# EAGLE library part SN74LVC2G32DCURG4 (library SN74LVC2G32DCURG4)
OR Gate 2-Element 2-IN CMOS 8-Pin VSSOP T/R Source: Datasheet <https://www.ti.com/lit/ds/symlink/sn74lvc2g32.pdf?ts=1619327696294&ref_url=https%3A%2F%2Fwww.ti.com%2Fproduct%2FSN74LVC2G32>
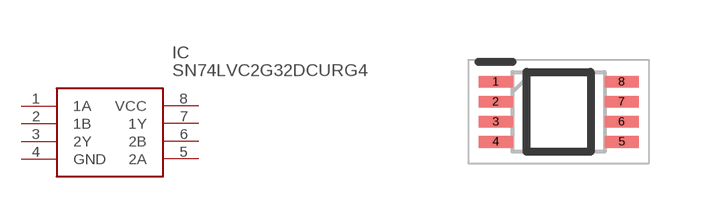
[diagram p0: symbol with the pads of SOP50P310X90-8N; footprint SOP50P310X90-8N]

Designator prefix IC

## SN74LVC2G32DCURG4 (Description: OR Gate 2-Element 2-IN CMOS 8-Pin VSSOP T/R; Height: 0.9mm; Manufacturer_Name: Texas Instruments; Manufacturer_Part_Number: SN74LVC2G32DCURG4; Mouser_Part_Number: 595-74LVC2G32DCURG4; Mouser_Price-Stock: https://www.mouser.co.uk/ProductDetail/Texas-Instruments/SN74LVC2G32DCURG4?qs=nqigI8dpoHK3mpTBwiNlKA%3D%3D)  [SOP50P310X90-8N]
1  1A
2  1B
3  2Y
4  GND
5  2A
6  2B
7  1Y
8  VCC

## Footprint SOP50P310X90-8N (pad centres in mm)
DCU (R-PDSO-G8)
smd 0.85 x 0.3: 1 -1.575,0.75; 2 -1.575,0.25; 3 -1.575,-0.25; 4 -1.575,-0.75; 5 1.575,-0.75; 6 1.575,-0.25; 7 1.575,0.25; 8 1.575,0.75